# EAGLE library part LT6200IS6 (library EagleLibrary)
Opamp Rail-to-rail Low noise
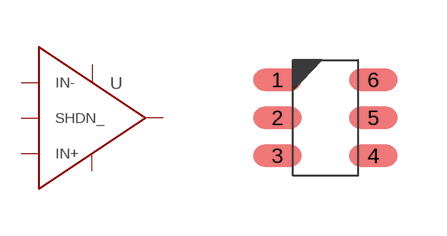
[diagram p5: symbol with the pads of LT6200IS6; footprint LT6200IS6]

Designator prefix U

## LT6200IS6 (MFG: Analog Devices; PN: LT6200IS6)  [LT6200IS6]
1  OUT
2  V-
3  IN+
4  IN-
5  SHDN_
6  V+

## Footprint LT6200IS6 (pad centres in mm)
6-SOT23, 0.95 mm pitch, 2.80 mm span, 2.90 X 1.63 X 1.00 mm body 6-pin SOT23 package with 0.95 mm pitch, 2.80 mm span with body size 2.90 X 1.63 X 1.00 mm
smd 1.212 x 0.547: 1 -1.2,0.95; 2 -1.2,0; 3 -1.2,-0.95; 4 1.2,-0.95; 5 1.2,0; 6 1.2,0.95